# Altium footprint library Coin_lib.PcbLib: 4 footprints
Each footprint in its own frame and in the unit in brackets; x right, y up, seen from the top. Pads: shape width x height; smd on the part's side, far side on the other; paste and mask are expansions set on the pad; w line width, h text height; cw(c..) or ccw(c..) is an arc to the next point about the centre after c.
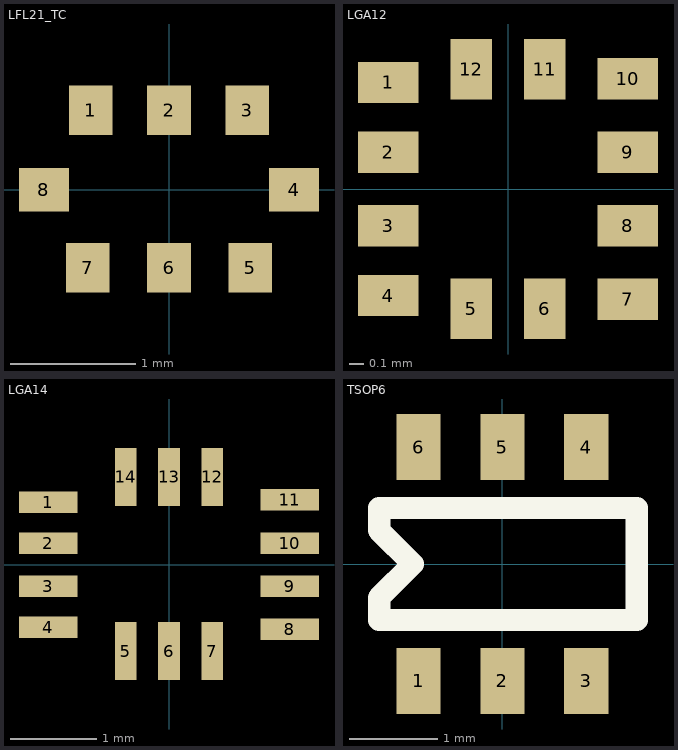
[diagram p0: the footprints below, top view; thin cyan lines are the x and y axes]

## LFL21_TC [mm] "Filter"
pads (8):
  rect 0.35x0.4 smd mask+0.05: 1(-0.625,0.635) 2(0,0.635) 3(0.625,0.635) 5(0.65,-0.625) 6(0,-0.625) 7(-0.65,-0.625)
  rect 0.4x0.35 smd mask+0.05: 4(1,0) 8(-1,0)
3D body: height 0.95, standoff 0, extent -1.143,-0.762 1.143,0.762

## LGA12 [mm]
pads (12):
  rect 0.41x0.28 smd mask+0.05: 1(-0.815,0.725) 2(-0.815,0.25) 3(-0.815,-0.25) 4(-0.815,-0.725) 7(0.815,-0.75) 8(0.815,-0.25) 9(0.815,0.25) 10(0.815,0.75)
  rect 0.28x0.41 smd mask+0.05: 5(-0.25,-0.815) 6(0.25,-0.815) 11(0.25,0.815) 12(-0.25,0.815)
3D body: height 0.82, standoff 0, extent -1.016,-1.016 1.016,1.016
3D body: height 0.25, standoff 0, extent 0.254,-0.127 0.254,-0.127
3D body: height 0.25, standoff 0, extent 0.254,-0.127 0.254,-0.127

## LGA14 [mm]
pads (14):
  rect 0.675x0.25 smd mask+0.05: 1(-1.4,0.725) 2(-1.4,0.25) 3(-1.4,-0.25) 4(-1.4,-0.725) 8(1.4,-0.75) 9(1.4,-0.25) 10(1.4,0.25) 11(1.4,0.75)
  rect 0.25x0.675 smd mask+0.05: 5(-0.5,-1) 6(0,-1) 7(0.5,-1) 12(0.5,1.016) 13(0,1.016) 14(-0.5,1.016)
3D body: height 0.9, standoff 0, extent -1.905,-1.524 1.905,1.524
3D body: height 0.25, standoff 0, extent 0.254,-0.127 0.254,-0.127
3D body: height 0.25, standoff 0, extent 0.254,-0.127 0.254,-0.127

## TSOP6 [mm]
pads (6):
  rect 0.5x0.75 smd mask+0.05: 1(-0.95,-1.325) 2(0,-1.325) 3(0.95,-1.325) 4(0.95,1.325) 5(0,1.325) 6(-0.95,1.325)
Top Overlay:
  lines w0.254: -1.397,-0.635 1.524,-0.635 1.524,0.635 -1.397,0.635 -1.397,0.381 -1.016,0 -1.397,-0.381 -1.397,-0.635